# Altium schematic symbol library ESD5Z6.SCHLIB: 1 symbol
Pins are listed as number, name and electrical type; pins without a type are passive.

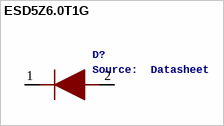
[diagram p0: symbol ESD5Z6.0T1G]

## ESD5Z6.0T1G
designator D?, comment Source:  Datasheet
Manufacturer_Name: onsemi; GateName_1: G$1; SymbolName_1: ESD5Z6.0T1G; LibraryName: ESD5Z6.0T1G; DeviceSetName: ESD5Z6.0T1G; Manufacturer_Part_Number: ESD5Z6.0T1G; Mouser_Part_Number: 863-ESD5Z6.0T1G; Mouser_Price-Stock: https://www.mouser.co.uk/ProductDetail/ON-Semiconductor/ESD5Z60T1G?qs=OSf9jACorvYUyIPFpvnErQ%3D%3D; Arrow_Part_Number: ESD5Z6.0T1G; Arrow_Price-Stock: https://www.arrow.com/en/products/esd5z6.0t1g/on-semiconductor; Height: 0.7mm
footprint SODFL1608X70N
pins: 1 K (io), 2 A (io)